# Altium footprint library T_CAN_PcbLib1.PcbLib: 2 footprints
Each footprint in its own frame and in the unit in brackets; x right, y up, seen from the top. Pads: shape width x height; smd on the part's side, far side on the other; paste and mask are expansions set on the pad; w line width, h text height; cw(c..) or ccw(c..) is an arc to the next point about the centre after c.
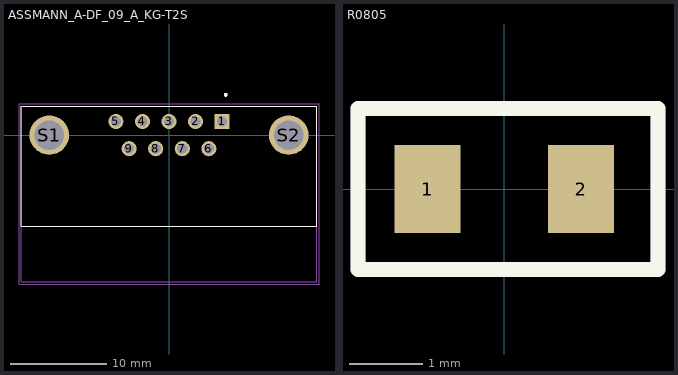
[diagram p0: the footprints below, top view; thin cyan lines are the x and y axes]

## ASSMANN_A-DF_09_A_KG-T2S [mm]
height 12.8
pads (11):
  rect 1.575x1.575 / inner round 1.575 / far side rect 1.575x1.575 hole 1.05: 1(5.54,1.42)
  round 1.575 hole 1.05: 2(2.77,1.42) 3(0,1.42) 4(-2.77,1.42) 5(-5.54,1.42) 6(4.155,-1.42) 7(1.385,-1.42) 8(-1.385,-1.42) 9(-4.155,-1.42)
  round 4.116 hole 3.1: S1(-12.495,0) S2(12.495,0)
Top Overlay:
  circle w0.2: c5.92,4.2 r0.1
  lines w0.127: -15.405,-9.5 -15.405,3 15.405,3 15.405,-9.5 -15.405,-9.5
Mechanical 13:
  circle w0.2: c5.92,4.2 r0.1
  lines w0.127: -15.405,-9.5 15.405,-9.5 ; -15.405,-15.3 -15.405,3 15.405,3 15.405,-15.3 -15.405,-15.3
Mechanical 15:
  lines w0.05: -15.655,-15.55 -15.655,3.25 15.655,3.25 15.655,-15.55 -15.655,-15.55
3D body "step_temp.STEP": height 12.8, standoff -4.4, extent -15.405,-15.4 15.405,2.9

## R0805 [mm]
pads (2):
  rect 0.9x1.2 smd: 1(-1.05,0) 2(1.05,0)
Top Overlay:
  lines w0.2: -2,-1.1 2.1,-1.1 2.1,1.1 -2,1.1 -2,-1.1
Top Assembly:
  lines w0.2: -2,-1.1 2.1,-1.1 2.1,1.1 -2,1.1 -2,-1.1
  text ".Designator" at -3.499,-0.233 h0.7
3D body "AC0805FR-7W120RL.STEP": height 0.61, standoff 0.01, extent -1,-0.625 1,0.625